# Altium footprint library WR-CIRCM12.PcbLib: 41 footprints (part 3 of 3)
Each footprint in its own frame and in the unit in brackets; x right, y up, seen from the top. Pads: shape width x height; smd on the part's side, far side on the other; paste and mask are expansions set on the pad; w line width, h text height; cw(c..) or ccw(c..) is an arc to the next point about the centre after c.
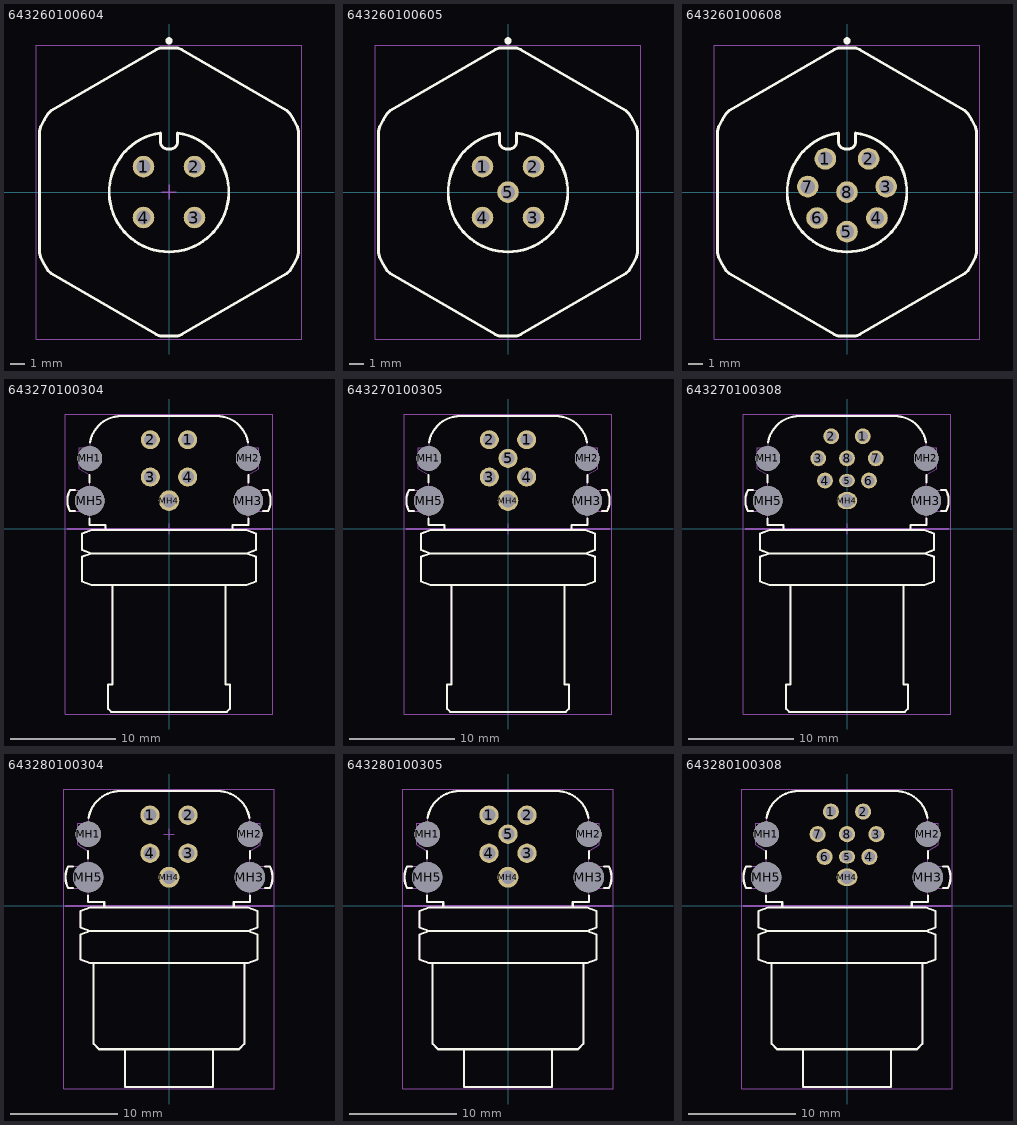
[diagram p2: the footprints below, top view; thin cyan lines are the x and y axes]

## 643260100604 [mm] "FEMALE METAL STRAIGHT FRONT SIMPLE  PG9"
height 23.5
pads (4):
  round 1.5 hole 1: 1(-1.768,1.768) 2(1.768,1.768) 3(1.768,-1.768) 4(-1.768,-1.768)
Top Overlay:
  circle w0.25: c0,10.5 r0.125
  lines w0.2: -8.925,-4.511 -9,-4.195 -9,4.195 -8.925,4.511 ; -8.91,-4.54 ccw(c0,0) -8.366,-5.479 ; -8.91,4.54 cw(c0,0) -8.366,5.479 ; -8.36,-5.475 -8.149,-5.674 -0.891,-9.883 -0.623,-9.994 ; -8.36,5.475 -8.149,5.674 -0.891,9.883 -0.623,9.994 ; -0.602,4.106 ccw(c0,0) 0.602,4.106 ; -0.6,-10 0.6,-10 ; -0.6,4.09 -0.6,3.49 ccw(c-0.1,3.49) -0.1,2.99 0.1,2.99 ccw(c0.1,3.49) 0.6,3.49 0.6,4.09 ; -0.6,10 0.6,10 ; 0.623,-9.994 0.891,-9.883 8.149,-5.674 8.36,-5.475 ; 0.623,9.994 0.891,9.883 8.149,5.674 8.36,5.475 ; 8.366,-5.479 ccw(c0,0) 8.91,-4.54 ; 8.366,5.479 cw(c0,0) 8.91,4.54 ; 8.925,-4.511 9,-4.195 9,4.195 8.925,4.511
Top Assembly:
  lines w0.1: -8.925,-4.511 -9,-4.195 -9,4.195 -8.925,4.511 ; -8.91,-4.54 ccw(c0,0) -8.366,-5.479 ; -8.91,4.54 cw(c0,0) -8.366,5.479 ; -8.36,-5.475 -8.149,-5.674 -0.891,-9.883 -0.623,-9.994 ; -8.36,5.475 -8.149,5.674 -0.891,9.883 -0.623,9.994 ; -0.602,4.106 ccw(c0,0) 0.602,4.106 ; -0.6,-10 0.6,-10 ; -0.6,4.09 -0.6,3.49 ccw(c-0.1,3.49) -0.1,2.99 0.1,2.99 ccw(c0.1,3.49) 0.6,3.49 0.6,4.09 ; -0.6,10 0.6,10 ; 0.623,-9.994 0.891,-9.883 8.149,-5.674 8.36,-5.475 ; 0.623,9.994 0.891,9.883 8.149,5.674 8.36,5.475 ; 8.366,-5.479 ccw(c0,0) 8.91,-4.54 ; 8.366,5.479 cw(c0,0) 8.91,4.54 ; 8.925,-4.511 9,-4.195 9,4.195 8.925,4.511
Top Designator:
  text ".Designator" at -3.647,-0.357 h1
Top 3D Body:
  lines w0.1: -8.925,-4.511 -9,-4.195 -9,4.195 -8.925,4.511 ; -8.91,-4.54 ccw(c0,0) -8.366,-5.479 ; -8.91,4.54 cw(c0,0) -8.366,5.479 ; -8.36,-5.475 -8.149,-5.674 -0.891,-9.883 -0.623,-9.994 ; -8.36,5.475 -8.149,5.674 -0.891,9.883 -0.623,9.994 ; -0.602,4.106 ccw(c0,0) 0.602,4.106 ; -0.6,-10 0.6,-10 ; -0.6,4.09 -0.6,3.49 ccw(c-0.1,3.49) -0.1,2.99 0.1,2.99 ccw(c0.1,3.49) 0.6,3.49 0.6,4.09 ; -0.6,10 0.6,10 ; 0.623,-9.994 0.891,-9.883 8.149,-5.674 8.36,-5.475 ; 0.623,9.994 0.891,9.883 8.149,5.674 8.36,5.475 ; 8.366,-5.479 ccw(c0,0) 8.91,-4.54 ; 8.366,5.479 cw(c0,0) 8.91,4.54 ; 8.925,-4.511 9,-4.195 9,4.195 8.925,4.511
Top Courtyard:
  lines w0.05: -9.2,-10.2 -9.2,10.2 9.2,10.2 9.2,-10.2 -9.2,-10.2
Top Component Center:
  lines w0.1: -0.5,0 0.5,0 ; 0,-0.5 0,0.5
3D body "643260100604.stp": height 23.05, standoff -2.95, extent -9.032,-9.998 9.04,9.998

## 643260100605 [mm] "FEMALE METAL STRAIGHT FRONT SIMPLE  PG9"
height 23.5
pads (5):
  round 1.5 hole 1: 1(-1.768,1.768) 2(1.768,1.768) 3(1.768,-1.768) 4(-1.768,-1.768) 5(0,0)
Top Overlay:
  circle w0.25: c0,10.5 r0.125
  lines w0.2: -8.925,-4.511 -9,-4.195 -9,4.195 -8.925,4.511 ; -8.91,-4.54 ccw(c0,0) -8.366,-5.479 ; -8.91,4.54 cw(c0,0) -8.366,5.479 ; -8.36,-5.475 -8.149,-5.674 -0.891,-9.883 -0.623,-9.994 ; -8.36,5.475 -8.149,5.674 -0.891,9.883 -0.623,9.994 ; -0.602,4.106 ccw(c0,0) 0.602,4.106 ; -0.6,-10 0.6,-10 ; -0.6,4.09 -0.6,3.49 ccw(c-0.1,3.49) -0.1,2.99 0.1,2.99 ccw(c0.1,3.49) 0.6,3.49 0.6,4.09 ; -0.6,10 0.6,10 ; 0.623,-9.994 0.891,-9.883 8.149,-5.674 8.36,-5.475 ; 0.623,9.994 0.891,9.883 8.149,5.674 8.36,5.475 ; 8.366,-5.479 ccw(c0,0) 8.91,-4.54 ; 8.366,5.479 cw(c0,0) 8.91,4.54 ; 8.925,-4.511 9,-4.195 9,4.195 8.925,4.511
Top Assembly:
  lines w0.1: -8.925,-4.511 -9,-4.195 -9,4.195 -8.925,4.511 ; -8.91,-4.54 ccw(c0,0) -8.366,-5.479 ; -8.91,4.54 cw(c0,0) -8.366,5.479 ; -8.36,-5.475 -8.149,-5.674 -0.891,-9.883 -0.623,-9.994 ; -8.36,5.475 -8.149,5.674 -0.891,9.883 -0.623,9.994 ; -0.602,4.106 ccw(c0,0) 0.602,4.106 ; -0.6,-10 0.6,-10 ; -0.6,4.09 -0.6,3.49 ccw(c-0.1,3.49) -0.1,2.99 0.1,2.99 ccw(c0.1,3.49) 0.6,3.49 0.6,4.09 ; -0.6,10 0.6,10 ; 0.623,-9.994 0.891,-9.883 8.149,-5.674 8.36,-5.475 ; 0.623,9.994 0.891,9.883 8.149,5.674 8.36,5.475 ; 8.366,-5.479 ccw(c0,0) 8.91,-4.54 ; 8.366,5.479 cw(c0,0) 8.91,4.54 ; 8.925,-4.511 9,-4.195 9,4.195 8.925,4.511
Top Designator:
  text ".Designator" at -3.647,-0.357 h1
Top 3D Body:
  lines w0.1: -8.925,-4.511 -9,-4.195 -9,4.195 -8.925,4.511 ; -8.91,-4.54 ccw(c0,0) -8.366,-5.479 ; -8.91,4.54 cw(c0,0) -8.366,5.479 ; -8.36,-5.475 -8.149,-5.674 -0.891,-9.883 -0.623,-9.994 ; -8.36,5.475 -8.149,5.674 -0.891,9.883 -0.623,9.994 ; -0.602,4.106 ccw(c0,0) 0.602,4.106 ; -0.6,-10 0.6,-10 ; -0.6,4.09 -0.6,3.49 ccw(c-0.1,3.49) -0.1,2.99 0.1,2.99 ccw(c0.1,3.49) 0.6,3.49 0.6,4.09 ; -0.6,10 0.6,10 ; 0.623,-9.994 0.891,-9.883 8.149,-5.674 8.36,-5.475 ; 0.623,9.994 0.891,9.883 8.149,5.674 8.36,5.475 ; 8.366,-5.479 ccw(c0,0) 8.91,-4.54 ; 8.366,5.479 cw(c0,0) 8.91,4.54 ; 8.925,-4.511 9,-4.195 9,4.195 8.925,4.511
Top Courtyard:
  lines w0.05: -9.2,-10.2 -9.2,10.2 9.2,10.2 9.2,-10.2 -9.2,-10.2
Top Component Center:
  lines w0.1: -0.5,0 0.5,0 ; 0,-0.5 0,0.5
3D body "643260100605.stp": height 23.05, standoff -2.95, extent -9.032,-9.998 9.04,9.998

## 643260100608 [mm] "FEMALE METAL STRAIGHT FRONT SIMPLE  PG9"
height 23.5
pads (8):
  round 1.5 hole 1: 1(-1.498,2.306) 2(1.498,2.306) 3(2.723,0.383) 4(2.08,-1.8) 5(0,-2.75) 6(-2.08,-1.8) 7(-2.723,0.383) 8(0,0)
Top Overlay:
  circle w0.25: c0,10.5 r0.125
  lines w0.2: -8.925,-4.511 -9,-4.195 -9,4.195 -8.925,4.511 ; -8.91,-4.54 ccw(c0,0) -8.366,-5.479 ; -8.91,4.54 cw(c0,0) -8.366,5.479 ; -8.36,-5.475 -8.149,-5.674 -0.891,-9.883 -0.623,-9.994 ; -8.36,5.475 -8.149,5.674 -0.891,9.883 -0.623,9.994 ; -0.602,4.106 ccw(c0,0) 0.602,4.106 ; -0.6,-10 0.6,-10 ; -0.6,4.09 -0.6,3.49 ccw(c-0.1,3.49) -0.1,2.99 0.1,2.99 ccw(c0.1,3.49) 0.6,3.49 0.6,4.09 ; -0.6,10 0.6,10 ; 0.623,-9.994 0.891,-9.883 8.149,-5.674 8.36,-5.475 ; 0.623,9.994 0.891,9.883 8.149,5.674 8.36,5.475 ; 8.366,-5.479 ccw(c0,0) 8.91,-4.54 ; 8.366,5.479 cw(c0,0) 8.91,4.54 ; 8.925,-4.511 9,-4.195 9,4.195 8.925,4.511
Top Assembly:
  lines w0.1: -8.925,-4.511 -9,-4.195 -9,4.195 -8.925,4.511 ; -8.91,-4.54 ccw(c0,0) -8.366,-5.479 ; -8.91,4.54 cw(c0,0) -8.366,5.479 ; -8.36,-5.475 -8.149,-5.674 -0.891,-9.883 -0.623,-9.994 ; -8.36,5.475 -8.149,5.674 -0.891,9.883 -0.623,9.994 ; -0.602,4.106 ccw(c0,0) 0.602,4.106 ; -0.6,-10 0.6,-10 ; -0.6,4.09 -0.6,3.49 ccw(c-0.1,3.49) -0.1,2.99 0.1,2.99 ccw(c0.1,3.49) 0.6,3.49 0.6,4.09 ; -0.6,10 0.6,10 ; 0.623,-9.994 0.891,-9.883 8.149,-5.674 8.36,-5.475 ; 0.623,9.994 0.891,9.883 8.149,5.674 8.36,5.475 ; 8.366,-5.479 ccw(c0,0) 8.91,-4.54 ; 8.366,5.479 cw(c0,0) 8.91,4.54 ; 8.925,-4.511 9,-4.195 9,4.195 8.925,4.511
Top Designator:
  text ".Designator" at -3.647,-0.357 h1
Top 3D Body:
  lines w0.1: -8.925,-4.511 -9,-4.195 -9,4.195 -8.925,4.511 ; -8.91,-4.54 ccw(c0,0) -8.366,-5.479 ; -8.91,4.54 cw(c0,0) -8.366,5.479 ; -8.36,-5.475 -8.149,-5.674 -0.891,-9.883 -0.623,-9.994 ; -8.36,5.475 -8.149,5.674 -0.891,9.883 -0.623,9.994 ; -0.602,4.106 ccw(c0,0) 0.602,4.106 ; -0.6,-10 0.6,-10 ; -0.6,4.09 -0.6,3.49 ccw(c-0.1,3.49) -0.1,2.99 0.1,2.99 ccw(c0.1,3.49) 0.6,3.49 0.6,4.09 ; -0.6,10 0.6,10 ; 0.623,-9.994 0.891,-9.883 8.149,-5.674 8.36,-5.475 ; 0.623,9.994 0.891,9.883 8.149,5.674 8.36,5.475 ; 8.366,-5.479 ccw(c0,0) 8.91,-4.54 ; 8.366,5.479 cw(c0,0) 8.91,4.54 ; 8.925,-4.511 9,-4.195 9,4.195 8.925,4.511
Top Courtyard:
  lines w0.05: -9.2,-10.2 9.2,-10.2 9.2,10.2 -9.2,10.2 -9.2,-10.2
Top Component Center:
  lines w0.1: -0.5,0 0.5,0 ; 0,-0.5 0,0.5
3D body "643260100608.stp": height 23.05, standoff -2.95, extent -9.032,-9.998 9.04,9.998

## 643270100304 [mm] "Serie M Male Metal Angled Front Simple"
height 17
pads (9):
  round 1.8 hole 1.2: 1(1.768,8.438) 2(-1.768,8.438) 3(-1.768,4.902) 4(1.768,4.902)
  round 2.35 hole 2.35 unplated: MH1(-7.5,6.67) MH2(7.5,6.67)
  round 2.8 hole 2.8 unplated: MH3(7.5,2.67) MH5(-7.5,2.67)
  round 1.95 hole 1.3: MH4(0,2.67)
Top Overlay:
  lines w0.2: -8.92,1.67 -9.366,1.67 cw(c-7.52,2.67) -9.366,3.671 -8.92,3.67 ; -8.23,-2.67 -8.23,-4.983 -7.35,-5.303 -5.36,-5.303 ; -8.23,-1.97 -8.23,-0.48 ; -8.21,-2.64 -7.33,-2.32 ; -8.21,-1.999 -7.33,-2.32 ; -8.21,-0.45 -7.33,-0.13 -6.02,-0.13 ; -7.52,0.95 -7.52,0.37 -6.02,0.37 -6.02,-0.13 ; -7.52,4.4 -7.52,5.105 ; -7.476,8.183 cw(c-4.52,7.67) -4.52,10.67 4.52,10.67 cw(c4.52,7.67) 7.476,8.183 ; 7.52,0.95 7.52,0.37 6.02,0.37 6.02,-0.13 ; 7.52,4.4 7.52,5.105 ; 8.21,-2.64 7.33,-2.32 ; 8.21,-1.999 7.33,-2.32 ; 8.21,-0.45 7.33,-0.13 6.02,-0.13 ; 8.23,-2.67 8.23,-4.983 7.35,-5.303 5.36,-5.303 ; 8.23,-1.97 8.23,-0.48 ; 8.92,1.67 9.366,1.67 ccw(c7.52,2.67) 9.366,3.671 8.92,3.67 ; -7.33,-2.32 7.33,-2.32 ; -6.02,-0.13 6.02,-0.13 ; -5.36,-5.303 -5.36,-14.733 -5.76,-14.733 -5.76,-17.033 -5.463,-17.33 5.463,-17.33 5.76,-17.033 5.76,-14.733 5.36,-14.733 5.36,-5.303 ; -5.36,-5.303 5.36,-5.303
Assembly Notes:
  lines w0.2: -9.6,0 9.6,0
  text "PCB Edge" at -3.297,-1.463 h1
Top Assembly:
  lines w0.1: -8.23,-2.67 -8.23,-4.983 -7.35,-5.303 -5.36,-5.303 ; -8.23,-1.97 -8.23,-0.48 ; -8.21,-2.64 -7.33,-2.32 ; -8.21,-1.999 -7.33,-2.32 ; -8.21,-0.45 -7.33,-0.13 -6.02,-0.13 ; 8.21,-2.64 7.33,-2.32 ; 8.21,-1.999 7.33,-2.32 ; 8.21,-0.45 7.33,-0.13 6.02,-0.13 ; 8.23,-2.67 8.23,-4.983 7.35,-5.303 5.36,-5.303 ; 8.23,-1.97 8.23,-0.48 ; -7.33,-2.32 7.33,-2.32 ; -6.02,-0.13 -6.02,0.37 -7.52,0.37 -7.52,1.67 -9.366,1.67 cw(c-7.52,2.67) -9.366,3.671 -7.52,3.67 -7.52,5.105 -8.5,5.67 -8.5,7.67 -7.52,7.67 cw(c-4.52,7.67) -4.52,10.67 4.52,10.67 cw(c4.52,7.67) 7.52,7.67 8.5,7.67 8.5,5.67 7.52,5.105 7.52,3.67 9.366,3.67 cw(c7.52,2.67) 9.366,1.67 7.52,1.67 7.52,0.37 6.02,0.37 6.02,-0.13 ; -6.02,-0.13 6.02,-0.13 ; -5.36,-5.303 -5.36,-14.733 -5.76,-14.733 -5.76,-17.033 -5.463,-17.33 5.463,-17.33 5.76,-17.033 5.76,-14.733 5.36,-14.733 5.36,-5.303 ; -5.36,-5.303 5.36,-5.303
Top Designator:
  text ".Designator" at -3.647,6.313 h1
Top 3D Body:
  lines w0.1: -8.23,-2.67 -8.23,-4.983 -7.35,-5.303 -5.36,-5.303 ; -8.23,-1.97 -8.23,-0.48 ; -8.21,-2.64 -7.33,-2.32 ; -8.21,-1.999 -7.33,-2.32 ; -8.21,-0.45 -7.33,-0.13 -6.02,-0.13 ; 8.21,-2.64 7.33,-2.32 ; 8.21,-1.999 7.33,-2.32 ; 8.21,-0.45 7.33,-0.13 6.02,-0.13 ; 8.23,-2.67 8.23,-4.983 7.35,-5.303 5.36,-5.303 ; 8.23,-1.97 8.23,-0.48 ; -7.33,-2.32 7.33,-2.32 ; -6.02,-0.13 6.02,-0.13 ; -6.02,-0.13 -6.02,0.37 -7.52,0.37 -7.52,1.67 -9.366,1.67 cw(c-7.52,2.67) -9.366,3.671 -7.52,3.67 -7.52,5.105 -8.5,5.67 -8.5,7.67 -7.52,7.67 cw(c-4.52,7.67) -4.52,10.67 4.52,10.67 cw(c4.52,7.67) 7.52,7.67 8.5,7.67 8.5,5.67 7.52,5.105 7.52,3.67 9.366,3.67 cw(c7.52,2.67) 9.366,1.67 7.52,1.67 7.52,0.37 6.02,0.37 6.02,-0.13 ; -5.36,-5.303 5.36,-5.303 ; -5.36,-5.303 -5.36,-14.733 -5.76,-14.733 -5.76,-17.033 -5.463,-17.33 5.463,-17.33 5.76,-17.033 5.76,-14.733 5.36,-14.733 5.36,-5.303
Top Courtyard:
  lines w0.05: -9.8,-17.53 -9.8,10.87 9.8,10.87 9.8,-17.53 -9.8,-17.53
Top Component Center:
  lines w0.1: -0.5,0 0.5,0 ; 0,-0.5 0,0.5
3D body "643270100304.stp": height 16.05, standoff -3.45, extent -9.6,-17.33 9.6,10.67

## 643270100305 [mm] "Serie M Male Metal Angled Front Simple"
height 17
pads (10):
  round 1.8 hole 1.2: 1(1.768,8.438) 2(-1.768,8.438) 3(-1.768,4.902) 4(1.768,4.902) 5(0,6.67)
  round 2.35 hole 2.35 unplated: MH1(-7.5,6.67) MH2(7.5,6.67)
  round 2.8 hole 2.8 unplated: MH3(7.5,2.67) MH5(-7.5,2.67)
  round 1.95 hole 1.3: MH4(0,2.67)
Top Overlay:
  lines w0.2: -8.92,1.67 -9.366,1.67 cw(c-7.52,2.67) -9.366,3.671 -8.92,3.67 ; -8.23,-2.67 -8.23,-4.983 -7.35,-5.303 -5.36,-5.303 ; -8.23,-1.97 -8.23,-0.48 ; -8.21,-2.64 -7.33,-2.32 ; -8.21,-1.999 -7.33,-2.32 ; -8.21,-0.45 -7.33,-0.13 -6.02,-0.13 ; -7.52,0.95 -7.52,0.37 -6.02,0.37 -6.02,-0.13 ; -7.52,4.4 -7.52,5.105 ; -7.476,8.183 cw(c-4.52,7.67) -4.52,10.67 4.52,10.67 cw(c4.52,7.67) 7.476,8.183 ; 7.52,0.95 7.52,0.37 6.02,0.37 6.02,-0.13 ; 7.52,4.4 7.52,5.105 ; 8.21,-2.64 7.33,-2.32 ; 8.21,-1.999 7.33,-2.32 ; 8.21,-0.45 7.33,-0.13 6.02,-0.13 ; 8.23,-2.67 8.23,-4.983 7.35,-5.303 5.36,-5.303 ; 8.23,-1.97 8.23,-0.48 ; 8.92,1.67 9.366,1.67 ccw(c7.52,2.67) 9.366,3.671 8.92,3.67 ; -7.33,-2.32 7.33,-2.32 ; -6.02,-0.13 6.02,-0.13 ; -5.36,-5.303 -5.36,-14.733 -5.76,-14.733 -5.76,-17.033 -5.463,-17.33 5.463,-17.33 5.76,-17.033 5.76,-14.733 5.36,-14.733 5.36,-5.303 ; -5.36,-5.303 5.36,-5.303
Assembly Notes:
  lines w0.2: -9.6,0 9.6,0
  text "PCB Edge" at -3.297,-1.463 h1
Top Assembly:
  lines w0.1: -8.23,-2.67 -8.23,-4.983 -7.35,-5.303 -5.36,-5.303 ; -8.23,-1.97 -8.23,-0.48 ; -8.21,-2.64 -7.33,-2.32 ; -8.21,-1.999 -7.33,-2.32 ; -8.21,-0.45 -7.33,-0.13 -6.02,-0.13 ; 8.21,-2.64 7.33,-2.32 ; 8.21,-1.999 7.33,-2.32 ; 8.21,-0.45 7.33,-0.13 6.02,-0.13 ; 8.23,-2.67 8.23,-4.983 7.35,-5.303 5.36,-5.303 ; 8.23,-1.97 8.23,-0.48 ; -7.33,-2.32 7.33,-2.32 ; -6.02,-0.13 -6.02,0.37 -7.52,0.37 -7.52,1.67 -9.366,1.67 cw(c-7.52,2.67) -9.366,3.671 -7.52,3.67 -7.52,5.105 -8.5,5.67 -8.5,7.67 -7.52,7.67 cw(c-4.52,7.67) -4.52,10.67 4.52,10.67 cw(c4.52,7.67) 7.52,7.67 8.5,7.67 8.5,5.67 7.52,5.105 7.52,3.67 9.366,3.67 cw(c7.52,2.67) 9.366,1.67 7.52,1.67 7.52,0.37 6.02,0.37 6.02,-0.13 ; -6.02,-0.13 6.02,-0.13 ; -5.36,-5.303 -5.36,-14.733 -5.76,-14.733 -5.76,-17.033 -5.463,-17.33 5.463,-17.33 5.76,-17.033 5.76,-14.733 5.36,-14.733 5.36,-5.303 ; -5.36,-5.303 5.36,-5.303
Top Designator:
  text ".Designator" at -3.647,6.313 h1
Top 3D Body:
  lines w0.1: -8.23,-2.67 -8.23,-4.983 -7.35,-5.303 -5.36,-5.303 ; -8.23,-1.97 -8.23,-0.48 ; -8.21,-2.64 -7.33,-2.32 ; -8.21,-1.999 -7.33,-2.32 ; -8.21,-0.45 -7.33,-0.13 -6.02,-0.13 ; 8.21,-2.64 7.33,-2.32 ; 8.21,-1.999 7.33,-2.32 ; 8.21,-0.45 7.33,-0.13 6.02,-0.13 ; 8.23,-2.67 8.23,-4.983 7.35,-5.303 5.36,-5.303 ; 8.23,-1.97 8.23,-0.48 ; -7.33,-2.32 7.33,-2.32 ; -6.02,-0.13 -6.02,0.37 -7.52,0.37 -7.52,1.67 -9.366,1.67 cw(c-7.52,2.67) -9.366,3.671 -7.52,3.67 -7.52,5.105 -8.5,5.67 -8.5,7.67 -7.52,7.67 cw(c-4.52,7.67) -4.52,10.67 4.52,10.67 cw(c4.52,7.67) 7.52,7.67 8.5,7.67 8.5,5.67 7.52,5.105 7.52,3.67 9.366,3.67 cw(c7.52,2.67) 9.366,1.67 7.52,1.67 7.52,0.37 6.02,0.37 6.02,-0.13 ; -6.02,-0.13 6.02,-0.13 ; -5.36,-5.303 -5.36,-14.733 -5.76,-14.733 -5.76,-17.033 -5.463,-17.33 5.463,-17.33 5.76,-17.033 5.76,-14.733 5.36,-14.733 5.36,-5.303 ; -5.36,-5.303 5.36,-5.303
Top Courtyard:
  lines w0.05: -9.8,-17.53 -9.8,10.87 9.8,10.87 9.8,-17.53 -9.8,-17.53
Top Component Center:
  lines w0.1: -0.5,0 0.5,0 ; 0,-0.5 0,0.5
3D body "643270100305.stp": height 16.05, standoff -3.45, extent -9.6,-17.33 9.6,10.67

## 643270100308 [mm] "Serie M Male Metal Angled Front Simple"
height 17
pads (13):
  round 1.5 hole 1: 1(1.5,8.77) 2(-1.5,8.77) 3(-2.725,6.67) 4(-2.08,4.57) 6(2.08,4.57) 7(2.725,6.67) 8(0,6.67)
  oval 1.5x1.2 hole 1: 5(0,4.57)
  round 2.35 hole 2.35 unplated: MH1(-7.5,6.67) MH2(7.5,6.67)
  round 2.8 hole 2.8 unplated: MH3(7.5,2.67) MH5(-7.5,2.67)
  oval 1.95x1.6 hole 1.3: MH4(0,2.67)
Top Overlay:
  lines w0.2: -8.92,1.67 -9.366,1.67 cw(c-7.52,2.67) -9.366,3.671 -8.92,3.67 ; -8.23,-2.67 -8.23,-4.983 -7.35,-5.303 -5.36,-5.303 ; -8.23,-1.97 -8.23,-0.48 ; -8.21,-2.64 -7.33,-2.32 ; -8.21,-1.999 -7.33,-2.32 ; -8.21,-0.45 -7.33,-0.13 -6.02,-0.13 ; -7.52,0.95 -7.52,0.37 -6.02,0.37 -6.02,-0.13 ; -7.52,4.4 -7.52,5.105 ; -7.476,8.183 cw(c-4.52,7.67) -4.52,10.67 4.52,10.67 cw(c4.52,7.67) 7.476,8.183 ; 7.52,0.95 7.52,0.37 6.02,0.37 6.02,-0.13 ; 7.52,4.4 7.52,5.105 ; 8.21,-2.64 7.33,-2.32 ; 8.21,-1.999 7.33,-2.32 ; 8.21,-0.45 7.33,-0.13 6.02,-0.13 ; 8.23,-2.67 8.23,-4.983 7.35,-5.303 5.36,-5.303 ; 8.23,-1.97 8.23,-0.48 ; 8.92,1.67 9.366,1.67 ccw(c7.52,2.67) 9.366,3.671 8.92,3.67 ; -7.33,-2.32 7.33,-2.32 ; -6.02,-0.13 6.02,-0.13 ; -5.36,-5.303 -5.36,-14.733 -5.76,-14.733 -5.76,-17.033 -5.463,-17.33 5.463,-17.33 5.76,-17.033 5.76,-14.733 5.36,-14.733 5.36,-5.303 ; -5.36,-5.303 5.36,-5.303
Assembly Notes:
  lines w0.2: -9.6,0 9.6,0
  text "PCB Edge" at -3.297,-1.463 h1
Top Assembly:
  lines w0.1: -8.23,-2.67 -8.23,-4.983 -7.35,-5.303 -5.36,-5.303 ; -8.23,-1.97 -8.23,-0.48 ; -8.21,-2.64 -7.33,-2.32 ; -8.21,-1.999 -7.33,-2.32 ; -8.21,-0.45 -7.33,-0.13 -6.02,-0.13 ; 8.21,-2.64 7.33,-2.32 ; 8.21,-1.999 7.33,-2.32 ; 8.21,-0.45 7.33,-0.13 6.02,-0.13 ; 8.23,-2.67 8.23,-4.983 7.35,-5.303 5.36,-5.303 ; 8.23,-1.97 8.23,-0.48 ; -7.33,-2.32 7.33,-2.32 ; -6.02,-0.13 -6.02,0.37 -7.52,0.37 -7.52,1.67 -9.366,1.67 cw(c-7.52,2.67) -9.366,3.671 -7.52,3.67 -7.52,5.105 -8.5,5.67 -8.5,7.67 -7.52,7.67 cw(c-4.52,7.67) -4.52,10.67 4.52,10.67 cw(c4.52,7.67) 7.52,7.67 8.5,7.67 8.5,5.67 7.52,5.105 7.52,3.67 9.366,3.67 cw(c7.52,2.67) 9.366,1.67 7.52,1.67 7.52,0.37 6.02,0.37 6.02,-0.13 ; -6.02,-0.13 6.02,-0.13 ; -5.36,-5.303 -5.36,-14.733 -5.76,-14.733 -5.76,-17.033 -5.463,-17.33 5.463,-17.33 5.76,-17.033 5.76,-14.733 5.36,-14.733 5.36,-5.303 ; -5.36,-5.303 5.36,-5.303
Top Designator:
  text ".Designator" at -3.647,6.313 h1
Top 3D Body:
  lines w0.1: -8.23,-2.67 -8.23,-4.983 -7.35,-5.303 -5.36,-5.303 ; -8.23,-1.97 -8.23,-0.48 ; -8.21,-2.64 -7.33,-2.32 ; -8.21,-1.999 -7.33,-2.32 ; -8.21,-0.45 -7.33,-0.13 -6.02,-0.13 ; 8.21,-2.64 7.33,-2.32 ; 8.21,-1.999 7.33,-2.32 ; 8.21,-0.45 7.33,-0.13 6.02,-0.13 ; 8.23,-2.67 8.23,-4.983 7.35,-5.303 5.36,-5.303 ; 8.23,-1.97 8.23,-0.48 ; -7.33,-2.32 7.33,-2.32 ; -6.02,-0.13 6.02,-0.13 ; -6.02,-0.13 -6.02,0.37 -7.52,0.37 -7.52,1.67 -9.366,1.67 cw(c-7.52,2.67) -9.366,3.671 -7.52,3.67 -7.52,5.105 -8.5,5.67 -8.5,7.67 -7.52,7.67 cw(c-4.52,7.67) -4.52,10.67 4.52,10.67 cw(c4.52,7.67) 7.52,7.67 8.5,7.67 8.5,5.67 7.52,5.105 7.52,3.67 9.366,3.67 cw(c7.52,2.67) 9.366,1.67 7.52,1.67 7.52,0.37 6.02,0.37 6.02,-0.13 ; -5.36,-5.303 5.36,-5.303 ; -5.36,-5.303 -5.36,-14.733 -5.76,-14.733 -5.76,-17.033 -5.463,-17.33 5.463,-17.33 5.76,-17.033 5.76,-14.733 5.36,-14.733 5.36,-5.303
Top Courtyard:
  lines w0.05: -9.8,-17.53 -9.8,10.87 9.8,10.87 9.8,-17.53 -9.8,-17.53
Top Component Center:
  lines w0.1: -0.5,0 0.5,0 ; 0,-0.5 0,0.5
3D body "643270100308.stp": height 16.05, standoff -3.45, extent -9.6,-17.33 9.6,10.67

## 643280100304 [mm] "Serie M Female Metal Angled Front Simple"
height 17
pads (9):
  round 1.8 hole 1.2: 1(-1.768,8.438) 2(1.768,8.438) 3(1.768,4.902) 4(-1.768,4.902)
  round 2.35 hole 2.35 unplated: MH1(-7.5,6.67) MH2(7.5,6.67)
  round 2.8 hole 2.8 unplated: MH3(7.5,2.67) MH5(-7.5,2.67)
  round 1.95 hole 1.3: MH4(0,2.67)
Top Overlay:
  lines w0.2: -8.92,1.67 -9.366,1.67 cw(c-7.52,2.67) -9.366,3.671 -8.92,3.67 ; -8.23,-2.67 -8.23,-4.983 -7.35,-5.303 7.35,-5.303 8.23,-4.983 8.23,-2.67 ; -8.23,-1.97 -8.23,-0.48 ; -8.21,-2.64 -7.33,-2.32 ; -8.21,-1.999 -7.33,-2.32 ; -8.21,-0.45 -7.33,-0.13 -6.02,-0.13 ; -7.52,0.95 -7.52,0.37 -6.02,0.37 -6.02,-0.13 ; -7.52,4.4 -7.52,5.105 ; -7.476,8.183 cw(c-4.52,7.67) -4.52,10.67 4.52,10.67 cw(c4.52,7.67) 7.476,8.183 ; -7,-5.303 -7,-12.803 -6.498,-13.305 6.498,-13.305 7,-12.803 7,-5.303 ; -4.098,-13.305 -4.098,-16.805 4.098,-16.805 4.098,-13.305 ; 7.52,0.95 7.52,0.37 6.02,0.37 6.02,-0.13 ; 7.52,4.4 7.52,5.105 ; 8.21,-2.64 7.33,-2.32 ; 8.21,-1.999 7.33,-2.32 ; 8.21,-0.45 7.33,-0.13 6.02,-0.13 ; 8.23,-1.97 8.23,-0.48 ; 8.92,1.67 9.366,1.67 ccw(c7.52,2.67) 9.366,3.671 8.92,3.67 ; -7.33,-2.32 7.33,-2.32 ; -6.02,-0.13 6.02,-0.13
Assembly Notes:
  lines w0.2: -9.6,0 9.6,0
  text "PCB Edge" at -3.297,-1.533 h1
Top Assembly:
  lines w0.1: -8.23,-2.67 -8.23,-4.983 -7.35,-5.303 7.35,-5.303 8.23,-4.983 8.23,-2.67 ; -8.23,-1.97 -8.23,-0.48 ; -8.21,-2.64 -7.33,-2.32 ; -8.21,-1.999 -7.33,-2.32 ; -8.21,-0.45 -7.33,-0.13 -6.02,-0.13 ; -7,-5.303 -7,-12.803 -6.498,-13.305 6.498,-13.305 7,-12.803 7,-5.303 ; -4.098,-13.305 -4.098,-16.805 4.098,-16.805 4.098,-13.305 ; 8.21,-2.64 7.33,-2.32 ; 8.21,-1.999 7.33,-2.32 ; 8.21,-0.45 7.33,-0.13 6.02,-0.13 ; 8.23,-1.97 8.23,-0.48 ; -7.33,-2.32 7.33,-2.32 ; -6.02,-0.13 -6.02,0.37 -7.52,0.37 -7.52,1.67 -9.366,1.67 cw(c-7.52,2.67) -9.366,3.671 -7.52,3.67 -7.52,5.105 -8.5,5.67 -8.5,7.67 -7.52,7.67 cw(c-4.52,7.67) -4.52,10.67 4.52,10.67 cw(c4.52,7.67) 7.52,7.67 8.5,7.67 8.5,5.67 7.52,5.105 7.52,3.67 9.366,3.67 cw(c7.52,2.67) 9.366,1.67 7.52,1.67 7.52,0.37 6.02,0.37 6.02,-0.13 ; -6.02,-0.13 6.02,-0.13
Top Designator:
  text ".Designator" at -3.647,6.313 h1
Top 3D Body:
  lines w0.1: -8.23,-2.67 -8.23,-4.983 -7.35,-5.303 7.35,-5.303 8.23,-4.983 8.23,-2.67 ; -8.23,-1.97 -8.23,-0.48 ; -8.21,-2.64 -7.33,-2.32 ; -8.21,-1.999 -7.33,-2.32 ; -8.21,-0.45 -7.33,-0.13 -6.02,-0.13 ; -7,-5.303 -7,-12.803 -6.498,-13.305 6.498,-13.305 7,-12.803 7,-5.303 ; -4.098,-13.305 -4.098,-16.805 4.098,-16.805 4.098,-13.305 ; 8.21,-2.64 7.33,-2.32 ; 8.21,-1.999 7.33,-2.32 ; 8.21,-0.45 7.33,-0.13 6.02,-0.13 ; 8.23,-1.97 8.23,-0.48 ; -7.33,-2.32 7.33,-2.32 ; -6.02,-0.13 -6.02,0.37 -7.52,0.37 -7.52,1.67 -9.366,1.67 cw(c-7.52,2.67) -9.366,3.671 -7.52,3.67 -7.52,5.105 -8.5,5.67 -8.5,7.67 -7.52,7.67 cw(c-4.52,7.67) -4.52,10.67 4.52,10.67 cw(c4.52,7.67) 7.52,7.67 8.5,7.67 8.5,5.67 7.52,5.105 7.52,3.67 9.366,3.67 cw(c7.52,2.67) 9.366,1.67 7.52,1.67 7.52,0.37 6.02,0.37 6.02,-0.13 ; -6.02,-0.13 6.02,-0.13
Top Courtyard:
  lines w0.05: -9.8,-17.005 -9.8,10.87 9.8,10.87 9.8,-17.005 -9.8,-17.005
Top Component Center:
  lines w0.1: -0.5,6.67 0.5,6.67 ; 0,6.17 0,7.17
3D body "643280100304.stp": height 16.05, standoff -3.45, extent -9.6,-16.83 9.6,10.67

## 643280100305 [mm] "Serie M Female Metal Angled Front Simple"
height 17
pads (10):
  round 1.8 hole 1.2: 1(-1.768,8.438) 2(1.768,8.438) 3(1.768,4.902) 4(-1.768,4.902) 5(0,6.67)
  round 2.35 hole 2.35 unplated: MH1(-7.5,6.67) MH2(7.5,6.67)
  round 2.8 hole 2.8 unplated: MH3(7.5,2.67) MH5(-7.5,2.67)
  round 1.95 hole 1.3: MH4(0,2.67)
Top Overlay:
  lines w0.2: -8.92,1.67 -9.366,1.67 cw(c-7.52,2.67) -9.366,3.671 -8.92,3.67 ; -8.23,-2.67 -8.23,-4.983 -7.35,-5.303 7.35,-5.303 8.23,-4.983 8.23,-2.67 ; -8.23,-1.97 -8.23,-0.48 ; -8.21,-2.64 -7.33,-2.32 ; -8.21,-1.999 -7.33,-2.32 ; -8.21,-0.45 -7.33,-0.13 -6.02,-0.13 ; -7.52,0.95 -7.52,0.37 -6.02,0.37 -6.02,-0.13 ; -7.52,4.4 -7.52,5.105 ; -7.476,8.183 cw(c-4.52,7.67) -4.52,10.67 4.52,10.67 cw(c4.52,7.67) 7.476,8.183 ; -7,-5.303 -7,-12.803 -6.498,-13.305 6.498,-13.305 7,-12.803 7,-5.303 ; -4.098,-13.305 -4.098,-16.805 4.098,-16.805 4.098,-13.305 ; 7.52,0.95 7.52,0.37 6.02,0.37 6.02,-0.13 ; 7.52,4.4 7.52,5.105 ; 8.21,-2.64 7.33,-2.32 ; 8.21,-1.999 7.33,-2.32 ; 8.21,-0.45 7.33,-0.13 6.02,-0.13 ; 8.23,-1.97 8.23,-0.48 ; 8.92,1.67 9.366,1.67 ccw(c7.52,2.67) 9.366,3.671 8.92,3.67 ; -7.33,-2.32 7.33,-2.32 ; -6.02,-0.13 6.02,-0.13
Assembly Notes:
  lines w0.2: -9.6,0 9.6,0
  text "PCB Edge" at -3.297,-1.533 h1
Top Assembly:
  lines w0.1: -8.23,-2.67 -8.23,-4.983 -7.35,-5.303 7.35,-5.303 8.23,-4.983 8.23,-2.67 ; -8.23,-1.97 -8.23,-0.48 ; -8.21,-2.64 -7.33,-2.32 ; -8.21,-1.999 -7.33,-2.32 ; -8.21,-0.45 -7.33,-0.13 -6.02,-0.13 ; -7,-5.303 -7,-12.803 -6.498,-13.305 6.498,-13.305 7,-12.803 7,-5.303 ; -4.098,-13.305 -4.098,-16.805 4.098,-16.805 4.098,-13.305 ; 8.21,-2.64 7.33,-2.32 ; 8.21,-1.999 7.33,-2.32 ; 8.21,-0.45 7.33,-0.13 6.02,-0.13 ; 8.23,-1.97 8.23,-0.48 ; -7.33,-2.32 7.33,-2.32 ; -6.02,-0.13 6.02,-0.13 ; -6.02,-0.13 -6.02,0.37 -7.52,0.37 -7.52,1.67 -9.366,1.67 cw(c-7.52,2.67) -9.366,3.671 -7.52,3.67 -7.52,5.105 -8.5,5.67 -8.5,7.67 -7.52,7.67 cw(c-4.52,7.67) -4.52,10.67 4.52,10.67 cw(c4.52,7.67) 7.52,7.67 8.5,7.67 8.5,5.67 7.52,5.105 7.52,3.67 9.366,3.67 cw(c7.52,2.67) 9.366,1.67 7.52,1.67 7.52,0.37 6.02,0.37 6.02,-0.13
Top Designator:
  text ".Designator" at -3.647,6.313 h1
Top 3D Body:
  lines w0.1: -8.23,-2.67 -8.23,-4.983 -7.35,-5.303 7.35,-5.303 8.23,-4.983 8.23,-2.67 ; -8.23,-1.97 -8.23,-0.48 ; -8.21,-2.64 -7.33,-2.32 ; -8.21,-1.999 -7.33,-2.32 ; -8.21,-0.45 -7.33,-0.13 -6.02,-0.13 ; -7,-5.303 -7,-12.803 -6.498,-13.305 6.498,-13.305 7,-12.803 7,-5.303 ; -4.098,-13.305 -4.098,-16.805 4.098,-16.805 4.098,-13.305 ; 8.21,-2.64 7.33,-2.32 ; 8.21,-1.999 7.33,-2.32 ; 8.21,-0.45 7.33,-0.13 6.02,-0.13 ; 8.23,-1.97 8.23,-0.48 ; -7.33,-2.32 7.33,-2.32 ; -6.02,-0.13 -6.02,0.37 -7.52,0.37 -7.52,1.67 -9.366,1.67 cw(c-7.52,2.67) -9.366,3.671 -7.52,3.67 -7.52,5.105 -8.5,5.67 -8.5,7.67 -7.52,7.67 cw(c-4.52,7.67) -4.52,10.67 4.52,10.67 cw(c4.52,7.67) 7.52,7.67 8.5,7.67 8.5,5.67 7.52,5.105 7.52,3.67 9.366,3.67 cw(c7.52,2.67) 9.366,1.67 7.52,1.67 7.52,0.37 6.02,0.37 6.02,-0.13 ; -6.02,-0.13 6.02,-0.13
Top Courtyard:
  lines w0.05: -9.8,-17.005 9.8,-17.005 9.8,10.87 -9.8,10.87 -9.8,-17.005
Top Component Center:
  lines w0.1: -0.5,6.67 0.5,6.67 ; 0,6.17 0,7.17
3D body "643280100305.stp": height 16.05, standoff -3.45, extent -9.6,-16.83 9.6,10.67

## 643280100308 [mm] "Serie M Female Metal Angled Front Simple"
height 17
pads (13):
  round 1.5 hole 1: 1(-1.5,8.77) 2(1.5,8.77) 3(2.725,6.67) 4(2.08,4.57) 6(-2.08,4.57) 7(-2.725,6.67) 8(0,6.67)
  oval 1.5x1.2 hole 1: 5(0,4.57)
  round 2.35 hole 2.35 unplated: MH1(-7.5,6.67) MH2(7.5,6.67)
  round 2.8 hole 2.8 unplated: MH3(7.5,2.67) MH5(-7.5,2.67)
  oval 1.95x1.6 hole 1.3: MH4(0,2.67)
Top Overlay:
  lines w0.2: -8.92,1.67 -9.366,1.67 cw(c-7.52,2.67) -9.366,3.671 -8.92,3.67 ; -8.23,-2.67 -8.23,-4.983 -7.35,-5.303 7.35,-5.303 8.23,-4.983 8.23,-2.67 ; -8.23,-1.97 -8.23,-0.48 ; -8.21,-2.64 -7.33,-2.32 ; -8.21,-1.999 -7.33,-2.32 ; -8.21,-0.45 -7.33,-0.13 -6.02,-0.13 ; -7.52,0.95 -7.52,0.37 -6.02,0.37 -6.02,-0.13 ; -7.52,4.4 -7.52,5.105 ; -7.476,8.183 cw(c-4.52,7.67) -4.52,10.67 4.52,10.67 cw(c4.52,7.67) 7.476,8.183 ; -7,-5.303 -7,-12.803 -6.498,-13.305 6.498,-13.305 7,-12.803 7,-5.303 ; -4.098,-13.305 -4.098,-16.805 4.098,-16.805 4.098,-13.305 ; 7.52,0.95 7.52,0.37 6.02,0.37 6.02,-0.13 ; 7.52,4.4 7.52,5.105 ; 8.21,-2.64 7.33,-2.32 ; 8.21,-1.999 7.33,-2.32 ; 8.21,-0.45 7.33,-0.13 6.02,-0.13 ; 8.23,-1.97 8.23,-0.48 ; 8.92,1.67 9.366,1.67 ccw(c7.52,2.67) 9.366,3.671 8.92,3.67 ; -7.33,-2.32 7.33,-2.32 ; -6.02,-0.13 6.02,-0.13
Assembly Notes:
  lines w0.2: -9.6,0 9.6,0
  text "PCB Edge" at -3.297,-1.533 h1
Top Assembly:
  lines w0.1: -8.23,-2.67 -8.23,-4.983 -7.35,-5.303 7.35,-5.303 8.23,-4.983 8.23,-2.67 ; -8.23,-1.97 -8.23,-0.48 ; -8.21,-2.64 -7.33,-2.32 ; -8.21,-1.999 -7.33,-2.32 ; -8.21,-0.45 -7.33,-0.13 -6.02,-0.13 ; -7,-5.303 -7,-12.803 -6.498,-13.305 6.498,-13.305 7,-12.803 7,-5.303 ; -4.098,-13.305 -4.098,-16.805 4.098,-16.805 4.098,-13.305 ; 8.21,-2.64 7.33,-2.32 ; 8.21,-1.999 7.33,-2.32 ; 8.21,-0.45 7.33,-0.13 6.02,-0.13 ; 8.23,-1.97 8.23,-0.48 ; -7.33,-2.32 7.33,-2.32 ; -6.02,-0.13 6.02,-0.13 ; -6.02,-0.13 -6.02,0.37 -7.52,0.37 -7.52,1.67 -9.366,1.67 cw(c-7.52,2.67) -9.366,3.671 -7.52,3.67 -7.52,5.105 -8.5,5.67 -8.5,7.67 -7.52,7.67 cw(c-4.52,7.67) -4.52,10.67 4.52,10.67 cw(c4.52,7.67) 7.52,7.67 8.5,7.67 8.5,5.67 7.52,5.105 7.52,3.67 9.366,3.67 cw(c7.52,2.67) 9.366,1.67 7.52,1.67 7.52,0.37 6.02,0.37 6.02,-0.13
Top Designator:
  text ".Designator" at -3.647,6.313 h1
Top 3D Body:
  lines w0.1: -8.23,-2.67 -8.23,-4.983 -7.35,-5.303 7.35,-5.303 8.23,-4.983 8.23,-2.67 ; -8.23,-1.97 -8.23,-0.48 ; -8.21,-2.64 -7.33,-2.32 ; -8.21,-1.999 -7.33,-2.32 ; -8.21,-0.45 -7.33,-0.13 -6.02,-0.13 ; -7,-5.303 -7,-12.803 -6.498,-13.305 6.498,-13.305 7,-12.803 7,-5.303 ; -4.098,-13.305 -4.098,-16.805 4.098,-16.805 4.098,-13.305 ; 8.21,-2.64 7.33,-2.32 ; 8.21,-1.999 7.33,-2.32 ; 8.21,-0.45 7.33,-0.13 6.02,-0.13 ; 8.23,-1.97 8.23,-0.48 ; -7.33,-2.32 7.33,-2.32 ; -6.02,-0.13 6.02,-0.13 ; -6.02,-0.13 -6.02,0.37 -7.52,0.37 -7.52,1.67 -9.366,1.67 cw(c-7.52,2.67) -9.366,3.671 -7.52,3.67 -7.52,5.105 -8.5,5.67 -8.5,7.67 -7.52,7.67 cw(c-4.52,7.67) -4.52,10.67 4.52,10.67 cw(c4.52,7.67) 7.52,7.67 8.5,7.67 8.5,5.67 7.52,5.105 7.52,3.67 9.366,3.67 cw(c7.52,2.67) 9.366,1.67 7.52,1.67 7.52,0.37 6.02,0.37 6.02,-0.13
Top Courtyard:
  lines w0.05: -9.8,-17.005 9.8,-17.005 9.8,10.87 -9.8,10.87 -9.8,-17.005
Top Component Center:
  lines w0.1: -0.5,6.67 0.5,6.67 ; 0,6.17 0,7.17
3D body "643280100308.stp": height 16.05, standoff -3.45, extent -9.6,-16.83 9.6,10.67